# EAGLE library part MSP430FR2355TDBTR (library 473)
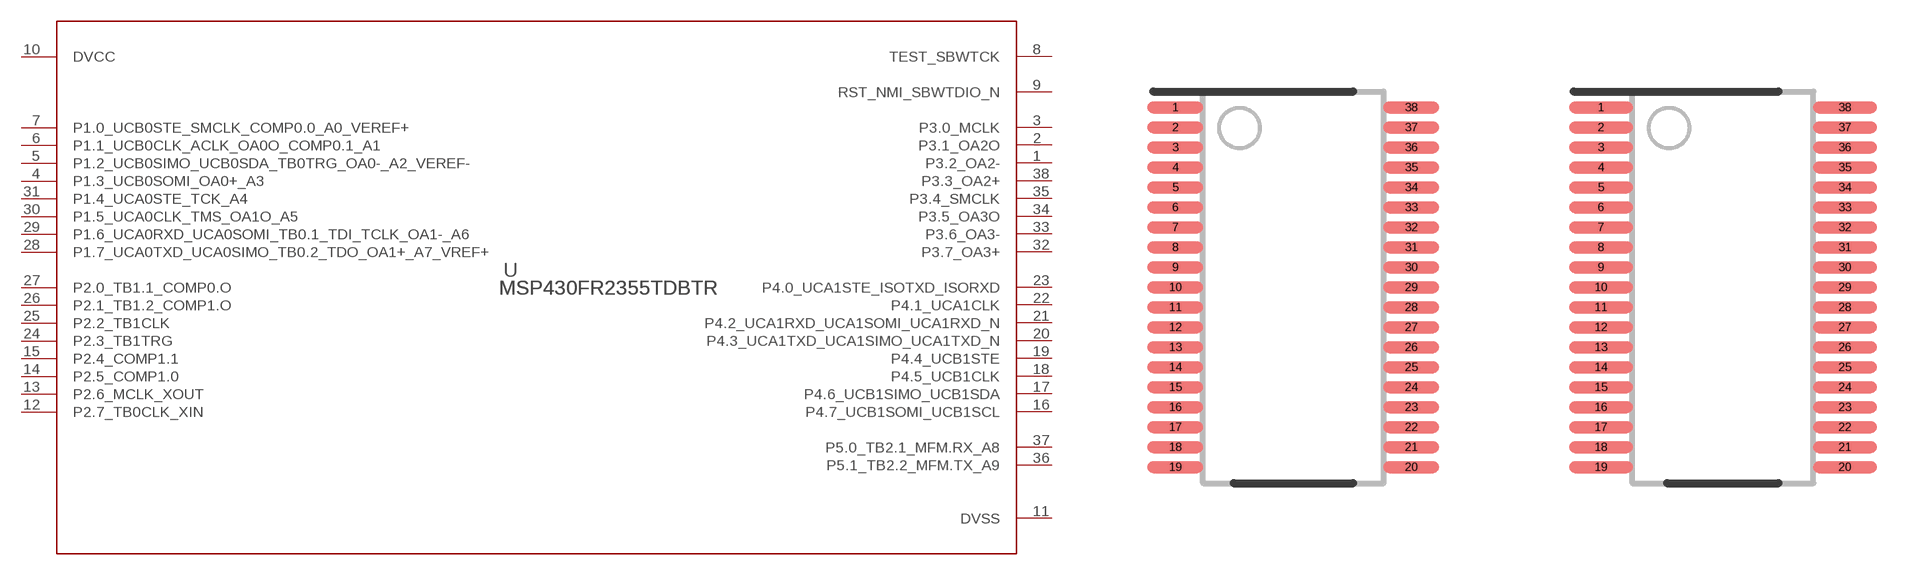
[diagram p3: symbol with the pads of DBT0038A_N; footprints DBT0038A_N, DBT0038A_M]

Designator prefix U

## MSP430FR2355TDBTR (COPYRIGHT: Copyright (C) 2022 Ultra Librarian. All rights reserved.; DIGI-KEY_PART_NUMBER_1: 296-50259-1-ND; DIGI-KEY_PART_NUMBER_2: 296-50259-2-ND; DIGI-KEY_PART_NUMBER_3: 296-50259-6-ND; MANUFACTURER_PART_NUMBER: MSP430FR2355TDBTR; MFR_NAME: Texas Instruments; REFDES: RefDes; TYPE: TYPE)  [DBT0038A_N]
1  P3.2_OA2-
2  P3.1_OA2O
3  P3.0_MCLK
4  P1.3_UCB0SOMI_OA0+_A3
5  P1.2_UCB0SIMO_UCB0SDA_TB0TRG_OA0-_A2_VEREF-
6  P1.1_UCB0CLK_ACLK_OA0O_COMP0.1_A1
7  P1.0_UCB0STE_SMCLK_COMP0.0_A0_VEREF+
8  TEST_SBWTCK  in
9  RST_NMI_SBWTDIO_N
10  DVCC  pwr
11  DVSS  pwr
12  P2.7_TB0CLK_XIN
13  P2.6_MCLK_XOUT
14  P2.5_COMP1.0
15  P2.4_COMP1.1
16  P4.7_UCB1SOMI_UCB1SCL
17  P4.6_UCB1SIMO_UCB1SDA
18  P4.5_UCB1CLK
19  P4.4_UCB1STE
20  P4.3_UCA1TXD_UCA1SIMO_UCA1TXD_N
21  P4.2_UCA1RXD_UCA1SOMI_UCA1RXD_N
22  P4.1_UCA1CLK
23  P4.0_UCA1STE_ISOTXD_ISORXD
24  P2.3_TB1TRG
25  P2.2_TB1CLK
26  P2.1_TB1.2_COMP1.O
27  P2.0_TB1.1_COMP0.O
28  P1.7_UCA0TXD_UCA0SIMO_TB0.2_TDO_OA1+_A7_VREF+
29  P1.6_UCA0RXD_UCA0SOMI_TB0.1_TDI_TCLK_OA1-_A6
30  P1.5_UCA0CLK_TMS_OA1O_A5
31  P1.4_UCA0STE_TCK_A4
32  P3.7_OA3+
33  P3.6_OA3-
34  P3.5_OA3O
35  P3.4_SMCLK
36  P5.1_TB2.2_MFM.TX_A9
37  P5.0_TB2.1_MFM.RX_A8
38  P3.3_OA2+

## MSP430FR2355TDBTRDBT0038A_M (COPYRIGHT: Copyright (C) 2022 Ultra Librarian. All rights reserved.; DIGI-KEY_PART_NUMBER_1: 296-50259-1-ND; DIGI-KEY_PART_NUMBER_2: 296-50259-2-ND; DIGI-KEY_PART_NUMBER_3: 296-50259-6-ND; MANUFACTURER_PART_NUMBER: MSP430FR2355TDBTR; MFR_NAME: Texas Instruments; REFDES: RefDes; TYPE: TYPE)  [DBT0038A_M]
Pads as for DBT0038A_N

## MSP430FR2355TDBTRDBT0038A_L (COPYRIGHT: Copyright (C) 2022 Ultra Librarian. All rights reserved.; DIGI-KEY_PART_NUMBER_1: 296-50259-1-ND; DIGI-KEY_PART_NUMBER_2: 296-50259-2-ND; DIGI-KEY_PART_NUMBER_3: 296-50259-6-ND; MANUFACTURER_PART_NUMBER: MSP430FR2355TDBTR; MFR_NAME: Texas Instruments; REFDES: RefDes; TYPE: TYPE)  [DBT0038A_L]
Pads as for DBT0038A_N

## Footprint DBT0038A_N (pad centres in mm)
smd 1.4 x 0.3: 1 -2.95,4.5; 2 -2.95,4; 3 -2.95,3.5; 4 -2.95,3; 5 -2.95,2.5; 6 -2.95,2; 7 -2.95,1.5; 8 -2.95,1; 9 -2.95,0.5; 10 -2.95,0; 11 -2.95,-0.5; 12 -2.95,-1; 13 -2.95,-1.5; 14 -2.95,-2; 15 -2.95,-2.5; 16 -2.95,-3; 17 -2.95,-3.5; 18 -2.95,-4; 19 -2.95,-4.5; 20 2.95,-4.5; 21 2.95,-4; 22 2.95,-3.5; 23 2.95,-3; 24 2.95,-2.5; 25 2.95,-2; 26 2.95,-1.5; 27 2.95,-1; 28 2.95,-0.5; 29 2.95,0; 30 2.95,0.5; 31 2.95,1; 32 2.95,1.5; 33 2.95,2; 34 2.95,2.5; 35 2.95,3; 36 2.95,3.5; 37 2.95,4; 38 2.95,4.5

## Footprint DBT0038A_M (pad centres in mm)
smd 1.6 x 0.3: 1 -3.05,4.5; 2 -3.05,4; 3 -3.05,3.5; 4 -3.05,3; 5 -3.05,2.5; 6 -3.05,2; 7 -3.05,1.5; 8 -3.05,1; 9 -3.05,0.5; 10 -3.05,0; 11 -3.05,-0.5; 12 -3.05,-1; 13 -3.05,-1.5; 14 -3.05,-2; 15 -3.05,-2.5; 16 -3.05,-3; 17 -3.05,-3.5; 18 -3.05,-4; 19 -3.05,-4.5; 20 3.05,-4.5; 21 3.05,-4; 22 3.05,-3.5; 23 3.05,-3; 24 3.05,-2.5; 25 3.05,-2; 26 3.05,-1.5; 27 3.05,-1; 28 3.05,-0.5; 29 3.05,0; 30 3.05,0.5; 31 3.05,1; 32 3.05,1.5; 33 3.05,2; 34 3.05,2.5; 35 3.05,3; 36 3.05,3.5; 37 3.05,4; 38 3.05,4.5

## Footprint DBT0038A_L (pad centres in mm)
smd 1.2 x 0.25: 1 -2.85,4.5; 2 -2.85,4; 3 -2.85,3.5; 4 -2.85,3; 5 -2.85,2.5; 6 -2.85,2; 7 -2.85,1.5; 8 -2.85,1; 9 -2.85,0.5; 10 -2.85,0; 11 -2.85,-0.5; 12 -2.85,-1; 13 -2.85,-1.5; 14 -2.85,-2; 15 -2.85,-2.5; 16 -2.85,-3; 17 -2.85,-3.5; 18 -2.85,-4; 19 -2.85,-4.5; 20 2.85,-4.5; 21 2.85,-4; 22 2.85,-3.5; 23 2.85,-3; 24 2.85,-2.5; 25 2.85,-2; 26 2.85,-1.5; 27 2.85,-1; 28 2.85,-0.5; 29 2.85,0; 30 2.85,0.5; 31 2.85,1; 32 2.85,1.5; 33 2.85,2; 34 2.85,2.5; 35 2.85,3; 36 2.85,3.5; 37 2.85,4; 38 2.85,4.5